# Altium schematic symbol library 009159010061911.SchLib: 1 symbol
Pins are listed as number, name and electrical type; pins without a type are passive.

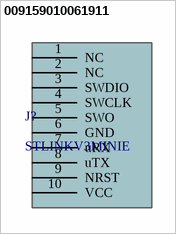
[diagram p0: symbol 009159010061911]

## 009159010061911
designator J?, comment STLINKV3MINIE
KYOCERA-AVX 009159010061911
footprint 009159010061911
pins: 1 NC, 2 NC, 3 SWDIO, 4 SWCLK, 5 SWO, 6 GND, 7 uRX, 8 uTX, 9 NRST, 10 VCC